# Altium integrated library Header.IntLib: 8 symbols
Pins are listed as number, name and electrical type; pins without a type are passive.

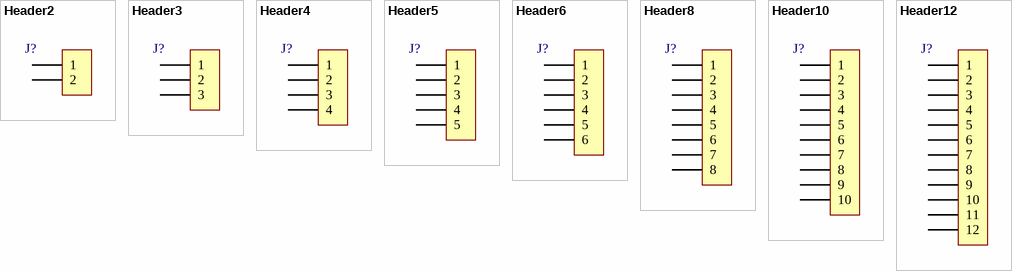
[diagram p0: symbols Header2 to Header12]

## Header2
designator J?  (value not drawn)
PCB terminal block; value: *
footprint ScrewHeader2 P5.0 (PCB terminal block with screw)
footprint ScrewHeader2 P2.54 (PCB terminal block with screw)
footprint PC MKDS 5 P7.62 2P (PHOENIX CONTACT MKDS 5/2-7.62 1868076)
footprint Phoenix MKDS5/2 P7.62 (Phoenix Contact MKDS 5/ 2-7,62)
footprint Weidmueller SLA 02/90 (PCB plug-in connector, male header, Pitch 5.08 mm, 2 poles)
footprint Phoenix MKDSN1.5 2P P5.08 (PCB terminal block with screw)
pins: 1, 2

## Header3
designator J?  (value not drawn)
PCB terminal block
footprint ScrewHeader3 P5.0 (PCB terminal block with screw)
footprint ScrewHeader3 P2.54 (PCB terminal block with screw)
footprint Phoenix MKDS5/3 P7.62 (Phoenix Contact MKDS 5/ 3-7,62)
footprint Weidmueller SLA 03/90 (PCB plug-in connector, male header, Pitch 5.08 mm, 3 poles)
footprint Phoenix MKDSN1.5 3P P5.08 (PCB terminal block with screw)
pins: 1, 2, 3

## Header4
designator J?  (value not drawn)
PCB terminal block
footprint ScrewHeader4 P5.0 (PCB terminal block with screw)
footprint ScrewHeader4 P2.54 (PCB terminal block with screw)
footprint Weidmueller SLA 04/90 (PCB plug-in connector, male header, Pitch 5.08 mm, 4 poles)
footprint Phoenix 1702474 (Fixed Terminal Blocks PTSM 0,5/ 4-2,5-H SMD R24)
pins: 1, 2, 3, 4

## Header5
designator J?  (value not drawn)
PCB terminal block
footprint ScrewHeader5 P5.0 (PCB terminal block with screw)
footprint ScrewHeader5 P2.54 (PCB terminal block with screw)
footprint Weidmueller SLA 05/90 (PCB plug-in connector, male header, Pitch 5.08 mm, 5 poles)
pins: 1, 2, 3, 4, 5

## Header6
designator J?  (value not drawn)
PCB terminal block
footprint ScrewHeader6 P5.0 (PCB terminal block with screw)
footprint Weidmueller SLA 06/90 (PCB plug-in connector, male header, Pitch 5.08 mm, 6 poles)
pins: 1, 2, 3, 4, 5, 6

## Header8
designator J?  (value not drawn)
PCB terminal block
footprint ScrewHeader8 P5.0 (PCB terminal block with screw)
footprint ScrewHeader8 P2.54 (PCB terminal block with screw)
footprint Weidmueller SLA 08/90 (PCB plug-in connector, male header, Pitch 5.08 mm, 8 poles)
footprint Phoenix 1771088 (Fixed Terminal Blocks PTSM 0,5/ 8-2,5-H SMD R44)
pins: 1, 2, 3, 4, 5, 6, 7, 8

## Header10
designator J?  (value not drawn)
PCB terminal block
footprint ScrewHeader10 P5.0 (PCB terminal block with screw)
footprint ScrewHeader10 P2.54 (PCB terminal block with screw)
pins: 1, 2, 3, 4, 5, 6, 7, 8, 9, 10

## Header12
designator J?  (value not drawn)
PCB terminal block
footprint ScrewHeader12 P5.0 (Footprint not found)
footprint ScrewHeader12 P2.54 (Footprint not found)
pins: 1, 2, 3, 4, 5, 6, 7, 8, 9, 10, 11, 12